# Altium footprint library Mounting_holes.PcbLib: 4 footprints
Each footprint in its own frame and in the unit in brackets; x right, y up, seen from the top. Pads: shape width x height; smd on the part's side, far side on the other; paste and mask are expansions set on the pad; w line width, h text height; cw(c..) or ccw(c..) is an arc to the next point about the centre after c.
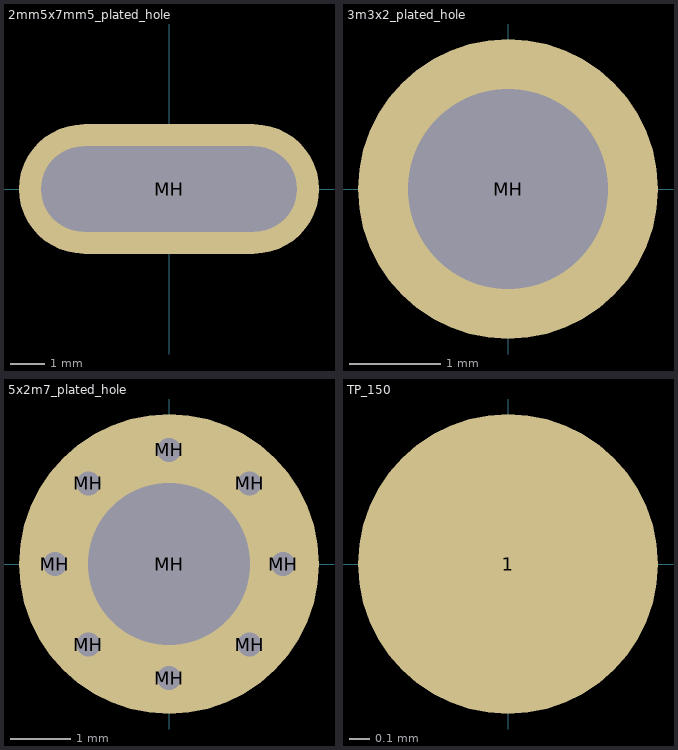
[diagram p0: the footprints below, top view; thin cyan lines are the x and y axes]

## 2mm5x7mm5_plated_hole [mm]
pads (1):
  oval 8.8x3.8 hole 2.5 slot 7.5 at 0 deg: MH(0,0)

## 3m3x2_plated_hole [mm]
pads (1):
  round 3.3 hole 2.2: MH(0,0)

## 5x2m7_plated_hole [mm]
pads (9):
  round 0.7 hole 0.4: MH(-1.9,0) MH(-1.344,-1.344) MH(-1.344,1.344) MH(0,-1.9) MH(0,1.9) MH(1.344,-1.344) MH(1.344,1.344) MH(1.9,0)
  round 5 hole 2.7: MH(0,0)
Top Courtyard:
  lines w0.153: -0.425,0 0.425,0 ; 0,-0.425 0,0.425

## TP_150 [mm]
pads (1):
  round 1.5 smd paste-1: 1(0,0)
Top Courtyard:
  lines w0.153: -0.425,0 0.425,0 ; 0,-0.425 0,0.425